# Altium integrated library Cypress PSoC 5.IntLib: 32 symbols (part 4 of 6)
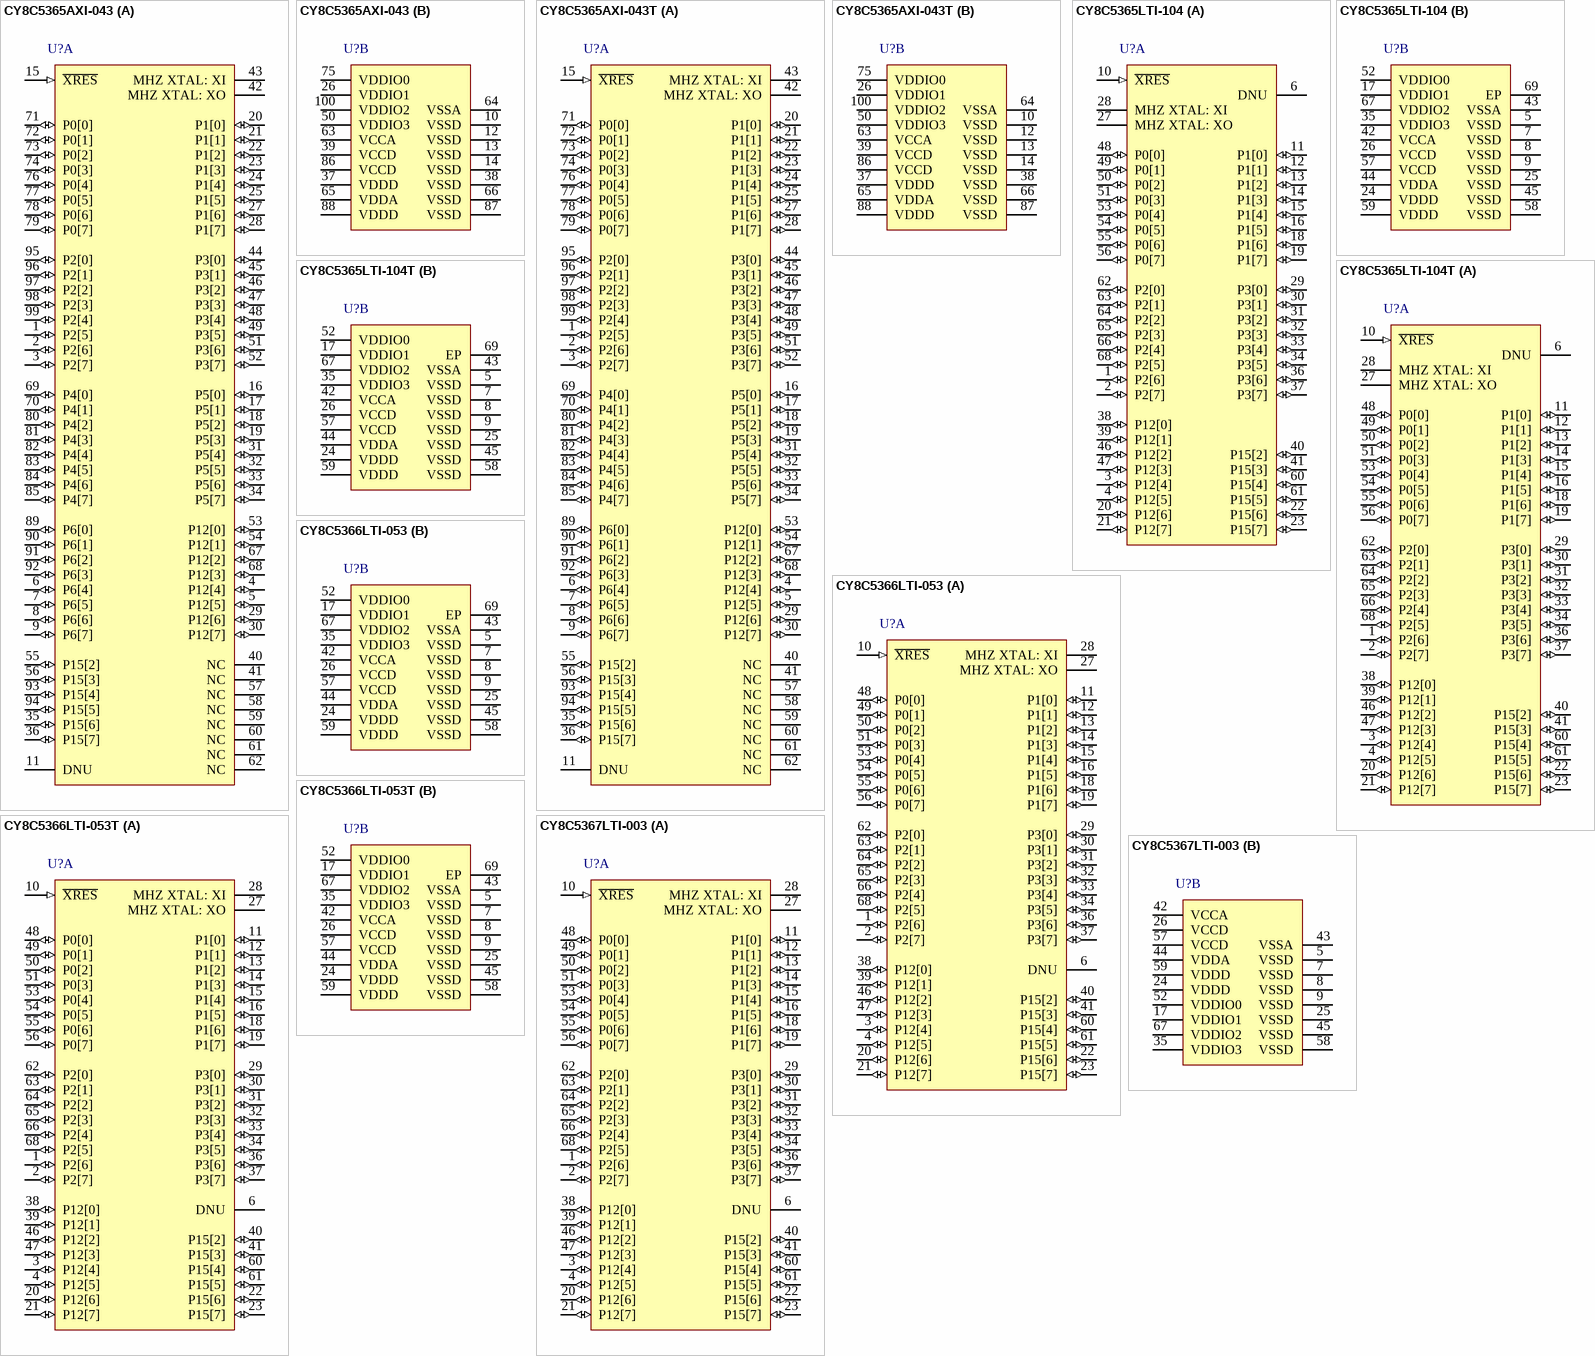
[diagram p7: symbols CY8C5365AXI-043 to CY8C5367LTI-003]

## CY8C5365LTI-104T
designator U?
PSoC Programmable System-on-Chip, 32 KB Flash, 36 GPIOs, 2.7 to 5.5 V, 68-Pin QFN (LT68), Tape and Reel; Manufacturer: Cypress; PartNumber: CY8C5365LTI-104T; CPU Core: ARM Cortex-M3; EEPROM (KB): 2; Flash (KB): 32; LCD Direct Drive: Y; Max. Operating Voltage (V): 5.5; Min. Operating Voltage (V): 2.7; No. of GPIOs: 36; No. of Programmable Universal Digital Blocks: 20; Rating: I; SRAM (KB): 8; DatasheetVersion: Rev. *D; PackageVersion: Rev. *E; PackageReference: LT68; PackageDescription: 68-Pin QFN, Body 8.00 x 8.00 mm, Pitch 0.40 mm; Supplier 1: Newark; Supplier Part Number 1: 89T5473; Supplier 2: Mouser; Supplier Part Number 2: 727-CY8C5365LTI-104T; Max. Operating Temp. (°C): 85; Min. Operating Temp. (°C): -40; Packing: Tape and Reel; Mounting Technology: Surface Mount; Code_JEDEC: MO-220; ComponentLink1Description: Manufacturer URL; ComponentLink1URL: http://www.cypress.com/; ComponentLink2Description: Datasheet; ComponentLink2URL: http://www.cypress.com/?docID=34816; ComponentLink3Description: Package Specification; ComponentLink3URL: http://www.cypress.com/?docID=38892; ComponentLink4Description: Product URL; ComponentLink4URL: http://www.cypress.com/?rID=38416
footprint CYP-LT68_N (QFN, 68-Leads, Body 8x8mm, Pitch 0.4mm, Thermal Pad 5.7x5.7mm, IPC Medium Density)
part A pins: 1 P2[6] (io) "General purpose I/O pin provides interfaces to the CPU, digital peripherals, analog peripherals, interrupts, LCD segment drive,and CapSense.", 2 P2[7] (io) "General purpose I/O pin provides interfaces to the CPU, digital peripherals, analog peripherals, interrupts, LCD segment drive,and CapSense.", 3 P12[4] (io) "Special I/O provides interfaces to the CPU, digital peripherals and interrupts with a programmable high threshold voltage, analog comparator, high sink current, and high impedance state when the device is unpowered.", 4 P12[5] (io) "Special I/O provides interfaces to the CPU, digital peripherals and interrupts with a programmable high threshold voltage, analog comparator, high sink current, and high impedance state when the device is unpowered.", 6 DNU "Pins labeled Do Not Use (DNU) must be left floating. USB pins on devices without USB are DNU.", 10 ~{XRES} (in) "External reset pin. Active low with internal pull-up.", 11 P1[0] (io) "Serial wire debug Input and output programming and debug port connection.General purpose I/O pin provides interfaces to the CPU, digital peripherals, analog peripherals, interrupts, LCD segment drive,and CapSense.", 12 P1[1] (io) "Serial wire debug clock programming and debug port connection. When programming and debugging using SWD is done over USBIOs, the SWDCK pin of port P1[1] is not available for use as a general purpose I/O and should be (See Datasheet)", 13 P1[2] (io) "General purpose I/O pin provides interfaces to the CPU, digital peripherals, analog peripherals, interrupts, LCD segment drive,and CapSense.", 14 P1[3] (io) "Single wire viewer output.General purpose I/O pin provides interfaces to the CPU, digital peripherals, analog peripherals, interrupts, LCD segment drive,and CapSense.", 15 P1[4] (io) "General purpose I/O pin provides interfaces to the CPU, digital peripherals, analog peripherals, interrupts, LCD segment drive,and CapSense.", 16 P1[5] (io) "General purpose I/O pin provides interfaces to the CPU, digital peripherals, analog peripherals, interrupts, LCD segment drive,and CapSense.", 18 P1[6] (io) "General purpose I/O pin provides interfaces to the CPU, digital peripherals, analog peripherals, interrupts, LCD segment drive,and CapSense.", 19 P1[7] (io) "General purpose I/O pin provides interfaces to the CPU, digital peripherals, analog peripherals, interrupts, LCD segment drive,and CapSense.", 20 P12[6] (io) "Special I/O provides interfaces to the CPU, digital peripherals and interrupts with a programmable high threshold voltage, analog comparator, high sink current, and high impedance state when the device is unpowered.", 21 P12[7] (io) "Special I/O provides interfaces to the CPU, digital peripherals and interrupts with a programmable high threshold voltage, analog comparator, high sink current, and high impedance state when the device is unpowered.", 22 P15[6] (io) "Provides D+ connection directly to a USB 2.0 bus.May be used as a digital I/O pin; it is powered from VDDD instead of from a VDDIO. Pins are Do Not Use (DNU) on devices without USB.Serial wire debug Input and output (See Datasheet)", 23 P15[7] (io) "Provides D- connection directly to a USB 2.0 bus.May be used as a digital I/O pin; it is powered from VDDD instead of from a VDDIO. Pins are Do Not Use (DNU) on devices without USB.Serial wire debug clock programming and (See Datasheet)", 27 MHZ XTAL: XO "4 to 25 MHz crystal oscillator pin. If a crystal is not used, then Xi must be shorted to ground and Xo must be left floating.", 28 MHZ XTAL: XI "4 to 25 MHz crystal oscillator pin. If a crystal is not used, then Xi must be shorted to ground and Xo must be left floating.", 29 P3[0] (io) "Low resistance output pin for high IDAC. General purpose I/O pin provides interfaces to the CPU, digital peripherals, analog peripherals, interrupts, LCD segment drive,and CapSense.", 30 P3[1] (io) "Low resistance output pin for high IDAC. General purpose I/O pin provides interfaces to the CPU, digital peripherals, analog peripherals, interrupts, LCD segment drive,and CapSense.", 31 P3[2] (io) "External reference input to the analog system. SAR0ref. External reference for SAR ADC.General purpose I/O pin provides interfaces to the CPU, digital peripherals, analog peripherals, interrupts, LCD segment drive,and (See Datasheet)", 32 P3[3] (io) "General purpose I/O pin provides interfaces to the CPU, digital peripherals, analog peripherals, interrupts, LCD segment drive,and CapSense.", 33 P3[4] (io) "General purpose I/O pin provides interfaces to the CPU, digital peripherals, analog peripherals, interrupts, LCD segment drive,and CapSense.", 34 P3[5] (io) "General purpose I/O pin provides interfaces to the CPU, digital peripherals, analog peripherals, interrupts, LCD segment drive,and CapSense.", 36 P3[6] (io) "General purpose I/O pin provides interfaces to the CPU, digital peripherals, analog peripherals, interrupts, LCD segment drive,and CapSense.", 37 P3[7] (io) "General purpose I/O pin provides interfaces to the CPU, digital peripherals, analog peripherals, interrupts, LCD segment drive,and CapSense.", 38 P12[0] (io) "Special I/O provides interfaces to the CPU, digital peripherals and interrupts with a programmable high threshold voltage, analog comparator, high sink current, and high impedance state when the device is unpowered.", 39 P12[1] (io) "Special I/O provides interfaces to the CPU, digital peripherals and interrupts with a programmable high threshold voltage, analog comparator, high sink current, and high impedance state when the device is unpowered.", 40 P15[2] (io) "General purpose I/O pin provides interfaces to the CPU, digital peripherals, analog peripherals, interrupts, LCD segment drive,and CapSense?32.768 kHz crystal oscillator pin.", 41 P15[3] (io) "General purpose I/O pin provides interfaces to the CPU, digital peripherals, analog peripherals, interrupts, LCD segment drive,and CapSense?32.768 kHz crystal oscillator pin.", 46 P12[2] (io) "Special I/O provides interfaces to the CPU, digital peripherals and interrupts with a programmable high threshold voltage, analog comparator, high sink current, and high impedance state when the device is unpowered.", 47 P12[3] (io) "Special I/O provides interfaces to the CPU, digital peripherals and interrupts with a programmable high threshold voltage, analog comparator, high sink current, and high impedance state when the device is unpowered.", 48 P0[0] (io) "General purpose I/O pin provides interfaces to the CPU, digital peripherals, analog peripherals, interrupts, LCD segment drive,and CapSense.", 49 P0[1] (io) "General purpose I/O pin provides interfaces to the CPU, digital peripherals, analog peripherals, interrupts, LCD segment drive,and CapSense.", 50 P0[2] (io) "General purpose I/O pin provides interfaces to the CPU, digital peripherals, analog peripherals, interrupts, LCD segment drive,and CapSense.", 51 P0[3] (io) "General purpose I/O pin provides interfaces to the CPU, digital peripherals, analog peripherals, interrupts, LCD segment drive,and CapSense.External reference input to the analog system. SAR0ref. External reference for SAR (See Datasheet)", 53 P0[4] (io) "General purpose I/O pin provides interfaces to the CPU,digital peripherals, analog peripherals, interrupts, LCD segment drive, and CapSense.External reference for SAR ADC.", 54 P0[5] (io) "General purpose I/O pin provides interfaces to the CPU, digital peripherals, analog peripherals, interrupts, LCD segment drive,and CapSense.", 55 P0[6] (io) "General purpose I/O pin provides interfaces to the CPU,digital peripherals, analog peripherals, interrupts, LCD segment drive, and CapSense.Low resistance output pin for high IDAC.", 56 P0[7] (io) "General purpose I/O pin provides interfaces to the CPU,digital peripherals, analog peripherals, interrupts, LCD segment drive, and CapSense.Low resistance output pin for high IDAC.", 60 P15[4] (io) "General purpose I/O pin provides interfaces to the CPU, digital peripherals, analog peripherals, interrupts, LCD segment drive,and CapSense.", 61 P15[5] (io) "General purpose I/O pin provides interfaces to the CPU, digital peripherals, analog peripherals, interrupts, LCD segment drive,and CapSense.", 62 P2[0] (io) "General purpose I/O pin provides interfaces to the CPU, digital peripherals, analog peripherals, interrupts, LCD segment drive,and CapSense.", 63 P2[1] (io) "General purpose I/O pin provides interfaces to the CPU, digital peripherals, analog peripherals, interrupts, LCD segment drive,and CapSense.", 64 P2[2] (io) "General purpose I/O pin provides interfaces to the CPU, digital peripherals, analog peripherals, interrupts, LCD segment drive,and CapSense.", 65 P2[3] (io) "General purpose I/O pin provides interfaces to the CPU, digital peripherals, analog peripherals, interrupts, LCD segment drive,and CapSense.", 66 P2[4] (io) "General purpose I/O pin provides interfaces to the CPU, digital peripherals, analog peripherals, interrupts, LCD segment drive,and CapSense.", 68 P2[5] (io) "General purpose I/O pin provides interfaces to the CPU, digital peripherals, analog peripherals, interrupts, LCD segment drive,and CapSense."
part B pins: 5 VSSD (power) "Ground for all digital logic and I/O pins.", 7 VSSD (power) "Ground for all digital logic and I/O pins.", 8 VSSD (power) "Ground for all digital logic and I/O pins.", 9 VSSD (power) "Ground for all digital logic and I/O pins.", 17 VDDIO1 (power) "Supply for I/O pins. Each VDDIO must be tied to a valid operating voltage (2.7 V to 5.5 V),and must be less than or equal to VDDA.", 24 VDDD (power) "Supply for all digital peripherals and digital core regulator.VDDD must be less than or equal to VDDA.", 25 VSSD (power) "Ground for all digital logic and I/O pins.", 26 VCCD (power) "Output of digital core regulator and input to digital core.The two VCCD pins must be shorted together, with the trace between them as short as possible, and a 1-uF capacitor to VSSD(10 uF is required for sleep mode. See (See Datasheet)", 35 VDDIO3 (power) "Supply for I/O pins. Each VDDIO must be tied to a valid operating voltage (2.7 V to 5.5 V),and must be less than or equal to VDDA.", 42 VCCA (power) "Output of analog core regulator and input to analog core.Requires a 1 uF capacitor to VSSA (10 uF is required for sleep mode. See Table 11-3). Regulator output not for external use.", 43 VSSA (power) "Ground for all analog peripherals.", 44 VDDA (power) "Supply for all analog peripherals and analog core regulator. VDDA must be the highest voltage present on the device. All other supply pins must be less than or equal to VDDA.", 45 VSSD (power) "Ground for all digital logic and I/O pins.", 52 VDDIO0 (power) "Supply for I/O pins. Each VDDIO must be tied to a valid operating voltage (2.7 V to 5.5 V),and must be less than or equal to VDDA.", 57 VCCD (power) "Output of digital core regulator and input to digital core.The two VCCD pins must be shorted together, with the trace between them as short as possible, and a 1-uF capacitor to VSSD(10 uF is required for sleep mode. See (See Datasheet)", 58 VSSD (power) "Ground for all digital logic and I/O pins.", 59 VDDD (power) "Supply for all digital peripherals and digital core regulator.VDDD must be less than or equal to VDDA.", 67 VDDIO2 (power) "Supply for I/O pins. Each VDDIO must be tied to a valid operating voltage (2.7 V to 5.5 V),and must be less than or equal to VDDA.", 69 EP (power) "The center pad on the QFN package should be connected to digital ground (VSSD) for best mechanical, thermal, and electrical performance. If not connected to ground, it should be electrically floated and not connected to any (See Datasheet)"

## CY8C5366LTI-053
designator U?
PSoC Programmable System-on-Chip, 64 KB Flash, 36 GPIOs, 2.7 to 5.5 V, 68-Pin QFN (LT68); Manufacturer: Cypress; PartNumber: CY8C5366LTI-053; CPU Core: ARM Cortex-M3; EEPROM (KB): 2; Flash (KB): 64; LCD Direct Drive: Y; Max. Operating Voltage (V): 5.5; Min. Operating Voltage (V): 2.7; No. of GPIOs: 36; No. of Programmable Universal Digital Blocks: 24; Rating: I; SRAM (KB): 16; DatasheetVersion: Rev. *D; PackageVersion: Rev. *E; PackageReference: LT68; PackageDescription: 68-Pin QFN, Body 8.00 x 8.00 mm, Pitch 0.40 mm; Supplier 1: Digi-Key; Supplier Part Number 1: 428-3135-ND; Supplier 2: Farnell; Supplier Part Number 2: 2082971; Supplier 3: Newark; Supplier Part Number 3: 89T5475; Supplier 4: Mouser; Supplier Part Number 4: 727-CY8C5366LTI-053; Max. Operating Temp. (°C): 85; Min. Operating Temp. (°C): -40; Mounting Technology: Surface Mount; Code_JEDEC: MO-220; ComponentLink1Description: Manufacturer URL; ComponentLink1URL: http://www.cypress.com/; ComponentLink2Description: Datasheet; ComponentLink2URL: http://www.cypress.com/?docID=34816; ComponentLink3Description: Package Specification; ComponentLink3URL: http://www.cypress.com/?docID=38892; ComponentLink4Description: Product URL; ComponentLink4URL: http://www.cypress.com/?rID=38416
footprint CYP-LT68_N (QFN, 68-Leads, Body 8x8mm, Pitch 0.4mm, Thermal Pad 5.7x5.7mm, IPC Medium Density)
part A pins: 1 P2[6] (io), 2 P2[7] (io), 3 P12[4] (io), 4 P12[5] (io), 6 DNU, 10 ~{XRES} (in) "External reset pin. Active low with internal pull-up.", 11 P1[0] (io), 12 P1[1] (io), 13 P1[2] (io), 14 P1[3] (io), 15 P1[4] (io), 16 P1[5] (io), 18 P1[6] (io), 19 P1[7] (io), 20 P12[6] (io), 21 P12[7] (io), 22 P15[6] (io), 23 P15[7] (io), 27 MHZ XTAL: XO "4 to 25 MHz crystal oscillator pin. If a crystal is not used then Xi must be shorted to ground and Xo must be left floating.", 28 MHZ XTAL: XI "4 to 25 MHz crystal oscillator pin. If a crystal is not used then Xi must be shorted to ground and Xo must be left floating.", 29 P3[0] (io), 30 P3[1] (io), 31 P3[2] (io), 32 P3[3] (io), 33 P3[4] (io), 34 P3[5] (io), 36 P3[6] (io), 37 P3[7] (io), 38 P12[0] (io), 39 P12[1] (io), 40 P15[2] (io), 41 P15[3] (io), 46 P12[2] (io), 47 P12[3] (io), 48 P0[0] (io), 49 P0[1] (io), 50 P0[2] (io), 51 P0[3] (io), 53 P0[4] (io), 54 P0[5] (io), 55 P0[6] (io), 56 P0[7] (io), 60 P15[4] (io), 61 P15[5] (io), 62 P2[0] (io), 63 P2[1] (io), 64 P2[2] (io), 65 P2[3] (io), 66 P2[4] (io), 68 P2[5] (io)
part B pins: 5 VSSD (power) "Ground for all digital logic and I/O pins.", 7 VSSD (power) "Ground for all digital logic and I/O pins.", 8 VSSD (power) "Ground for all digital logic and I/O pins.", 9 VSSD (power) "Ground for all digital logic and I/O pins.", 17 VDDIO1 (power) "Supply for I/O pins. Each VDDIO must be tied to a valid operating voltage (2.7 V to 5.5 V), and must be less than or equal to VDDA.", 24 VDDD (power) "Supply for all digital peripherals and digital core regulator. VDDD must be less than or equal to VDDA.", 25 VSSD (power) "Ground for all digital logic and I/O pins.", 26 VCCD (power) "Output of digital core regulator and input to digital core. The two VCCD pins must be shorted together, with the trace between them as short as possible, and a 1 µF capacitor to VSSD (10 µF is required for sleep mode.", 35 VDDIO3 (power) "Supply for I/O pins. Each VDDIO must be tied to a valid operating voltage (2.7 V to 5.5 V), and must be less than or equal to VDDA", 42 VCCA (power) "Output of analog core regulator and input to analog core. Requires a 1 µF capacitor to VSSA (10 µF is required for sleep mode.", 43 VSSA (power) "Ground for all analog peripherals", 44 VDDA (power) "Supply for all analog peripherals and analog core regulator. VDDA must be the highest voltage present on the device. All other supply pins must be less than or equal to VDDA.", 45 VSSD (power) "Ground for all digital logic and I/O pins.", 52 VDDIO0 (power) "Supply for I/O pins. Each VDDIO must be tied to a valid operating voltage (2.7 V to 5.5 V), and must be less than or equal to VDDA.", 57 VCCD (power) "Output of digital core regulator and input to digital core. The two VCCD pins must be shorted together, with the trace between them as short as possible, and a 1 µF capacitor to VSSD (10 µF is required for sleep mode.", 58 VSSD (power) "Ground for all digital logic and I/O pins.", 59 VDDD (power) "Supply for all digital peripherals and digital core regulator. VDDD must be less than or equal to VDDA.", 67 VDDIO2 (power) "Supply for I/O pins. Each VDDIO must be tied to a valid operating voltage (2.7 V to 5.5 V), and must be less than or equal to VDDA.", 69 EP (power)

## CY8C5366LTI-053T
designator U?
PSoC Programmable System-on-Chip, 64 KB Flash, 36 GPIOs, 2.7 to 5.5 V, 68-Pin QFN (LT68), Tape and Reel; Manufacturer: Cypress; PartNumber: CY8C5366LTI-053T; CPU Core: ARM Cortex-M3; EEPROM (KB): 2; Flash (KB): 64; LCD Direct Drive: Y; Max. Operating Voltage (V): 5.5; Min. Operating Voltage (V): 2.7; No. of GPIOs: 36; No. of Programmable Universal Digital Blocks: 24; Rating: I; SRAM (KB): 16; DatasheetVersion: Rev. *D; PackageVersion: Rev. *E; PackageReference: LT68; PackageDescription: 68-Pin QFN, Body 8.00 x 8.00 mm, Pitch 0.40 mm; Supplier 1: Newark; Supplier Part Number 1: 89T5476; Supplier 2: Mouser; Supplier Part Number 2: 727-CY8C5366LTI-053T; Max. Operating Temp. (°C): 85; Min. Operating Temp. (°C): -40; Packing: Tape and Reel; Mounting Technology: Surface Mount; Code_JEDEC: MO-220; ComponentLink1Description: Manufacturer URL; ComponentLink1URL: http://www.cypress.com/; ComponentLink2Description: Datasheet; ComponentLink2URL: http://www.cypress.com/?docID=34816; ComponentLink3Description: Package Specification; ComponentLink3URL: http://www.cypress.com/?docID=38892; ComponentLink4Description: Product URL; ComponentLink4URL: http://www.cypress.com/?rID=38416
footprint CYP-LT68_N (QFN, 68-Leads, Body 8x8mm, Pitch 0.4mm, Thermal Pad 5.7x5.7mm, IPC Medium Density)
part A pins: 1 P2[6] (io), 2 P2[7] (io), 3 P12[4] (io), 4 P12[5] (io), 6 DNU, 10 ~{XRES} (in) "External reset pin. Active low with internal pull-up.", 11 P1[0] (io), 12 P1[1] (io), 13 P1[2] (io), 14 P1[3] (io), 15 P1[4] (io), 16 P1[5] (io), 18 P1[6] (io), 19 P1[7] (io), 20 P12[6] (io), 21 P12[7] (io), 22 P15[6] (io), 23 P15[7] (io), 27 MHZ XTAL: XO "4 to 25 MHz crystal oscillator pin. If a crystal is not used then Xi must be shorted to ground and Xo must be left floating.", 28 MHZ XTAL: XI "4 to 25 MHz crystal oscillator pin. If a crystal is not used then Xi must be shorted to ground and Xo must be left floating.", 29 P3[0] (io), 30 P3[1] (io), 31 P3[2] (io), 32 P3[3] (io), 33 P3[4] (io), 34 P3[5] (io), 36 P3[6] (io), 37 P3[7] (io), 38 P12[0] (io), 39 P12[1] (io), 40 P15[2] (io), 41 P15[3] (io), 46 P12[2] (io), 47 P12[3] (io), 48 P0[0] (io), 49 P0[1] (io), 50 P0[2] (io), 51 P0[3] (io), 53 P0[4] (io), 54 P0[5] (io), 55 P0[6] (io), 56 P0[7] (io), 60 P15[4] (io), 61 P15[5] (io), 62 P2[0] (io), 63 P2[1] (io), 64 P2[2] (io), 65 P2[3] (io), 66 P2[4] (io), 68 P2[5] (io)
part B pins: 5 VSSD (power) "Ground for all digital logic and I/O pins.", 7 VSSD (power) "Ground for all digital logic and I/O pins.", 8 VSSD (power) "Ground for all digital logic and I/O pins.", 9 VSSD (power) "Ground for all digital logic and I/O pins.", 17 VDDIO1 (power) "Supply for I/O pins. Each VDDIO must be tied to a valid operating voltage (2.7 V to 5.5 V), and must be less than or equal to VDDA.", 24 VDDD (power) "Supply for all digital peripherals and digital core regulator. VDDD must be less than or equal to VDDA.", 25 VSSD (power) "Ground for all digital logic and I/O pins.", 26 VCCD (power) "Output of digital core regulator and input to digital core. The two VCCD pins must be shorted together, with the trace between them as short as possible, and a 1 µF capacitor to VSSD (10 µF is required for sleep mode.", 35 VDDIO3 (power) "Supply for I/O pins. Each VDDIO must be tied to a valid operating voltage (2.7 V to 5.5 V), and must be less than or equal to VDDA", 42 VCCA (power) "Output of analog core regulator and input to analog core. Requires a 1 µF capacitor to VSSA (10 µF is required for sleep mode.", 43 VSSA (power) "Ground for all analog peripherals", 44 VDDA (power) "Supply for all analog peripherals and analog core regulator. VDDA must be the highest voltage present on the device. All other supply pins must be less than or equal to VDDA.", 45 VSSD (power) "Ground for all digital logic and I/O pins.", 52 VDDIO0 (power) "Supply for I/O pins. Each VDDIO must be tied to a valid operating voltage (2.7 V to 5.5 V), and must be less than or equal to VDDA.", 57 VCCD (power) "Output of digital core regulator and input to digital core. The two VCCD pins must be shorted together, with the trace between them as short as possible, and a 1 µF capacitor to VSSD (10 µF is required for sleep mode.", 58 VSSD (power) "Ground for all digital logic and I/O pins.", 59 VDDD (power) "Supply for all digital peripherals and digital core regulator. VDDD must be less than or equal to VDDA.", 67 VDDIO2 (power) "Supply for I/O pins. Each VDDIO must be tied to a valid operating voltage (2.7 V to 5.5 V), and must be less than or equal to VDDA.", 69 EP (power)

## CY8C5367LTI-003
designator U?
PSoC Programmable System-on-Chip, 128 KB Flash, 36 GPIOs, 2.7 to 5.5 V, 68-Pin QFN (LT68); Manufacturer: Cypress; PartNumber: CY8C5367LTI-003; CPU Core: ARM Cortex-M3; EEPROM (KB): 2; Flash (KB): 128; LCD Direct Drive: Y; Max. Operating Voltage (V): 5.5; Min. Operating Voltage (V): 2.7; No. of GPIOs: 36; No. of Programmable Universal Digital Blocks: 24; Packing: Tray; Rating: I; SRAM (KB): 32; DatasheetVersion: Rev. *D; PackageVersion: Rev. *E; PackageReference: LT68; PackageDescription: 68-Pin QFN, Body 8.00 x 8.00 mm, Pitch 0.40 mm; Supplier 1: Digi-Key; Supplier Part Number 1: 428-3136-ND; Supplier 2: Farnell; Supplier Part Number 2: 2082972; Supplier 3: Newark; Supplier Part Number 3: 89T5478; Supplier 4: Mouser; Supplier Part Number 4: 727-CY8C5367LTI-003; Max. Operating Temp. (°C): 85; Min. Operating Temp. (°C): -40; Mounting Technology: Surface Mount; Code_JEDEC: MO-220; ComponentLink1Description: Manufacturer URL; ComponentLink1URL: http://www.cypress.com/; ComponentLink2Description: Datasheet; ComponentLink2URL: http://www.cypress.com/?docID=34816; ComponentLink3Description: Package Specification; ComponentLink3URL: http://www.cypress.com/?docID=38892; ComponentLink4Description: Product URL; ComponentLink4URL: http://www.cypress.com/?rID=38416
footprint CYP-LT68_N (QFN, 68-Leads, Body 8x8mm, Pitch 0.4mm, Thermal Pad 5.7x5.7mm, IPC Medium Density)
part A pins: 1 P2[6] (io) "General purpose I/O pin provides interfaces to the CPU,digital peripherals, analog peripherals, interrupts, LCD segment drive, and CapSense.", 2 P2[7] (io) "General purpose I/O pin provides interfaces to the CPU,digital peripherals, analog peripherals, interrupts, LCD segment drive, and CapSense.", 3 P12[4] (io) "Special I/O provides interfaces to the CPU, digital peripherals and interrupts with a programmable high threshold voltage, analog comparator, high sink current, and high impedance state when the device is unpowered.", 4 P12[5] (io) "Special I/O provides interfaces to the CPU, digital peripherals and interrupts with a programmable high threshold voltage, analog comparator, high sink current, and high impedance state when the device is unpowered.", 6 DNU, 10 ~{XRES} (in) "External reset pin. Active low with internal pull-up.", 11 P1[0] (io) "SWDIO. Serial Wire Debug Input and Output programming and debug port connection.GPIO.General purpose I/O pin provides interfaces to the CPU,digital peripherals, analog peripherals, interrupts, LCD segment drive, and CapSense.", 12 P1[1] (io) "SWDCK. Serial Wire Debug Clock programming and debug port connection. When programming and debugging using SWD is done over USBIOs, the SWDCK pin of port P1[1] is not available for use as a general purpose I/O and should be (See Datasheet)", 13 P1[2] (io) "General purpose I/O pin provides interfaces to the CPU,digital peripherals, analog peripherals, interrupts, LCD segment drive, and CapSense.", 14 P1[3] (io) "SWV. Single Wire Viewer output.GPIO.General purpose I/O pin provides interfaces to the CPU,digital peripherals, analog peripherals, interrupts, LCD segment drive, and CapSense.", 15 P1[4] (io) "General purpose I/O pin provides interfaces to the CPU,digital peripherals, analog peripherals, interrupts, LCD segment drive, and CapSense.", 16 P1[5] (io) "General purpose I/O pin provides interfaces to the CPU,digital peripherals, analog peripherals, interrupts, LCD segment drive, and CapSense.", 18 P1[6] (io) "General purpose I/O pin provides interfaces to the CPU,digital peripherals, analog peripherals, interrupts, LCD segment drive, and CapSense.", 19 P1[7] (io) "General purpose I/O pin provides interfaces to the CPU,digital peripherals, analog peripherals, interrupts, LCD segment drive, and CapSense.", 20 P12[6] (io) "Special I/O provides interfaces to the CPU, digital peripherals and interrupts with a programmable high threshold voltage, analog comparator, high sink current, and high impedance state when the device is unpowered.", 21 P12[7] (io) "Special I/O provides interfaces to the CPU, digital peripherals and interrupts with a programmable high threshold voltage, analog comparator, high sink current, and high impedance state when the device is unpowered.", 22 P15[6] (io) "USBIO, D+. Provides D+ connection directly to a USB 2.0 bus.May be used as a digital I/O pin; it is powered from VDDD instead of from a VDDIO. Pins are Do Not Use (DNU) on devices without USB.  SWDIO. Serial Wire Debug Input (See Datasheet)", 23 P15[7] (io) "USBIO, D-. Provides D- connection directly to a USB 2.0 bus.May be used as a digital I/O pin; it is powered from VDDD instead of from a VDDIO. Pins are DNU on devices without USB.  SWDCK. Serial Wire Debug Clock programming (See Datasheet)", 27 MHZ XTAL: XO "4 to 25 MHz crystal oscillator pin. If a crystal is not used then Xi must be shorted to ground and Xo must be left floating.", 28 MHZ XTAL: XI "4 to 25 MHz crystal oscillator pin. If a crystal is not used then Xi must be shorted to ground and Xo must be left floating.", 29 P3[0] (io) "General purpose I/O pin provides interfaces to the CPU,digital peripherals, analog peripherals, interrupts, LCD segment drive, and CapSense.", 30 P3[1] (io) "General purpose I/O pin provides interfaces to the CPU,digital peripherals, analog peripherals, interrupts, LCD segment drive, and CapSense.", 31 P3[2] (io) "GPIO.General purpose I/O pin provides interfaces to the CPU,digital peripherals, analog peripherals, interrupts, LCD segment drive, and CapSense.Extref1 External reference input to the analog system.", 32 P3[3] (io) "General purpose I/O pin provides interfaces to the CPU,digital peripherals, analog peripherals, interrupts, LCD segment drive, and CapSense.", 33 P3[4] (io) "General purpose I/O pin provides interfaces to the CPU,digital peripherals, analog peripherals, interrupts, LCD segment drive, and CapSense.", 34 P3[5] (io) "General purpose I/O pin provides interfaces to the CPU,digital peripherals, analog peripherals, interrupts, LCD segment drive, and CapSense.", 36 P3[6] (io) "General purpose I/O pin provides interfaces to the CPU,digital peripherals, analog peripherals, interrupts, LCD segment drive, and CapSense.", 37 P3[7] (io) "General purpose I/O pin provides interfaces to the CPU,digital peripherals, analog peripherals, interrupts, LCD segment drive, and CapSense.", 38 P12[0] (io) "Special I/O provides interfaces to the CPU, digital peripherals and interrupts with a programmable high threshold voltage, analog comparator, high sink current, and high impedance state when the device is unpowered.", 39 P12[1] (io) "Special I/O provides interfaces to the CPU, digital peripherals and interrupts with a programmable high threshold voltage, analog comparator, high sink current, and high impedance state when the device is unpowered.", 40 P15[2] (io) "GPIO.General purpose I/O pin provides interfaces to the CPU,digital peripherals, analog peripherals, interrupts, LCD segment drive, and CapSens.kHz XTAL: Xo, kHz XTAL: Xi. 32.768 kHz crystal oscillator pin.", 41 P15[3] (io) "GPIO.General purpose I/O pin provides interfaces to the CPU,digital peripherals, analog peripherals, interrupts, LCD segment drive, and CapSense.kHz XTAL: Xo, kHz XTAL: Xi. 32.768 kHz crystal oscillator pin.", 46 P12[2] (io) "Special I/O provides interfaces to the CPU, digital peripherals and interrupts with a programmable high threshold voltage, analog comparator, high sink current, and high impedance state when the device is unpowered.", 47 P12[3] (io) "Special I/O provides interfaces to the CPU, digital peripherals and interrupts with a programmable high threshold voltage, analog comparator, high sink current, and high impedance state when the device is unpowered.", 48 P0[0] (io) "GPIO.General purpose I/O pin provides interfaces to the CPU,digital peripherals, analog peripherals, interrupts, LCD segment drive, and CapSense[6].OpAmp2out. High current output of uncommitted opamp.", 49 P0[1] (io) "GPIO.General purpose I/O pin provides interfaces to the CPU,digital peripherals, analog peripherals, interrupts, LCD segment drive, and CapSense[6].OpAmp0out. High current output of uncommitted opamp.", 50 P0[2] (io) "GPIO.General purpose I/O pin provides interfaces to the CPU,digital peripherals, analog peripherals, interrupts, LCD segment drive, and CapSense[6]. OpAmp2+. Noninverting input to uncommitted opamp.", 51 P0[3] (io) "GPIO.General purpose I/O pin provides interfaces to the CPU,digital peripherals, analog peripherals, interrupts, LCD segment drive, and CapSense[6].OpAmp0-. Inverting input to uncommitted opamp.  Extref0. External reference (See Datasheet)", 53 P0[4] (io) "GPIO.General purpose I/O pin provides interfaces to the CPU,digital peripherals, analog peripherals, interrupts, LCD segment drive, and CapSense[6].OpAmp2+. Noninverting input to uncommitted opamp.SAR0ref.  External (See Datasheet)", 54 P0[5] (io) "GPIO.General purpose I/O pin provides interfaces to the CPU,digital peripherals, analog peripherals, interrupts, LCD segment drive, and CapSense[6].OpAmp2-. Inverting input to uncommitted opamp.", 55 P0[6] (io) "GPIO.General purpose I/O pin provides interfaces to the CPU,digital peripherals, analog peripherals, interrupts, LCD segment drive, and CapSense[6].IDAC0. Low resistance output pin for high current DACs(IDAC).", 56 P0[7] (io) "GPIO.General purpose I/O pin provides interfaces to the CPU,digital peripherals, analog peripherals, interrupts, LCD segment drive, and CapSense[6].IDAC2. Low resistance output pin for high current DACs(IDAC).", 60 P15[4] (io) "General purpose I/O pin provides interfaces to the CPU,digital peripherals, analog peripherals, interrupts, LCD segment drive, and CapSense.", 61 P15[5] (io) "General purpose I/O pin provides interfaces to the CPU,digital peripherals, analog peripherals, interrupts, LCD segment drive, and CapSense.", 62 P2[0] (io) "General purpose I/O pin provides interfaces to the CPU,digital peripherals, analog peripherals, interrupts, LCD segment drive, and CapSense.", 63 P2[1] (io) "General purpose I/O pin provides interfaces to the CPU,digital peripherals, analog peripherals, interrupts, LCD segment drive, and CapSense.", 64 P2[2] (io) "General purpose I/O pin provides interfaces to the CPU,digital peripherals, analog peripherals, interrupts, LCD segment drive, and CapSense.", 65 P2[3] (io) "General purpose I/O pin provides interfaces to the CPU,digital peripherals, analog peripherals, interrupts, LCD segment drive, and CapSense.", 66 P2[4] (io) "General purpose I/O pin provides interfaces to the CPU,digital peripherals, analog peripherals, interrupts, LCD segment drive, and CapSense].", 68 P2[5] (io) "General purpose I/O pin provides interfaces to the CPU,digital peripherals, analog peripherals, interrupts, LCD segment drive, and CapSense."
part B pins: 5 VSSD (power) "Ground for all digital logic and I/O pins.", 7 VSSD (power) "Ground for all digital logic and I/O pins.", 8 VSSD (power) "Ground for all digital logic and I/O pins.", 9 VSSD (power) "Ground for all digital logic and I/O pins.", 17 VDDIO1 (power) "Supply for I/O pins. Each VDDIO must be tied to a valid operating voltage (2.7 V to 5.5 V), and must be less than or equal to VDDA .", 24 VDDD (power) "Supply for all digital peripherals and digital core regulator. Supply for all digital peripherals and digital core regulator. VDDD must be less than or equal to VDDA.", 25 VSSD (power) "Ground for all digital logic and I/O pins.", 26 VCCD (power) "Output of digital core regulator and input to digital core.The two VCCD pins must be shorted together, with the trace between them as short as possible, and a 1 µF capacitor to VSSD(10 µF is required for sleep mode. See (See Datasheet)", 35 VDDIO3 (power) "Supply for I/O pins. Each VDDIO must be tied to a valid operating voltage (2.7 V to 5.5 V), and must be less than or equal to VDDA.", 42 VCCA (power) "Output of analog core regulator and input to analog core.Requires a 1 µF capacitor to VSSA (10 µF is required for sleep mode. See Table 11-3). Regulator output not for external use.", 43 VSSA (power) "Ground for all analog peripherals.", 44 VDDA (power) "Supply for all analog peripherals and analog core regulator. VDDA must be the highest voltage present on the device. All other supply pins must be less than or equal to VDDA.", 45 VSSD (power) "Ground for all digital logic and I/O pins.", 52 VDDIO0 (power) "Supply for I/O pins. Each VDDIO must be tied to a valid operating voltage (2.7 V to 5.5 V), and must be less than or equal to VDDA.", 57 VCCD (power) "Output of digital core regulator and input to digital core.The two VCCD pins must be shorted together, with the trace between them as short as possible, and a 1 µF capacitor to VSSD(10 µF is required for sleep mode. See (See Datasheet)", 58 VSSD (power) "Ground for all digital logic and I/O pins.", 59 VDDD (power) "Supply for all digital peripherals and digital core regulator.VDDD must be less than or equal to VDDA.", 67 VDDIO2 (power) "Supply for I/O pins. Each VDDIO must be tied to a valid operating voltage (2.7 V to 5.5 V), and must be less than or equal to VDDA."

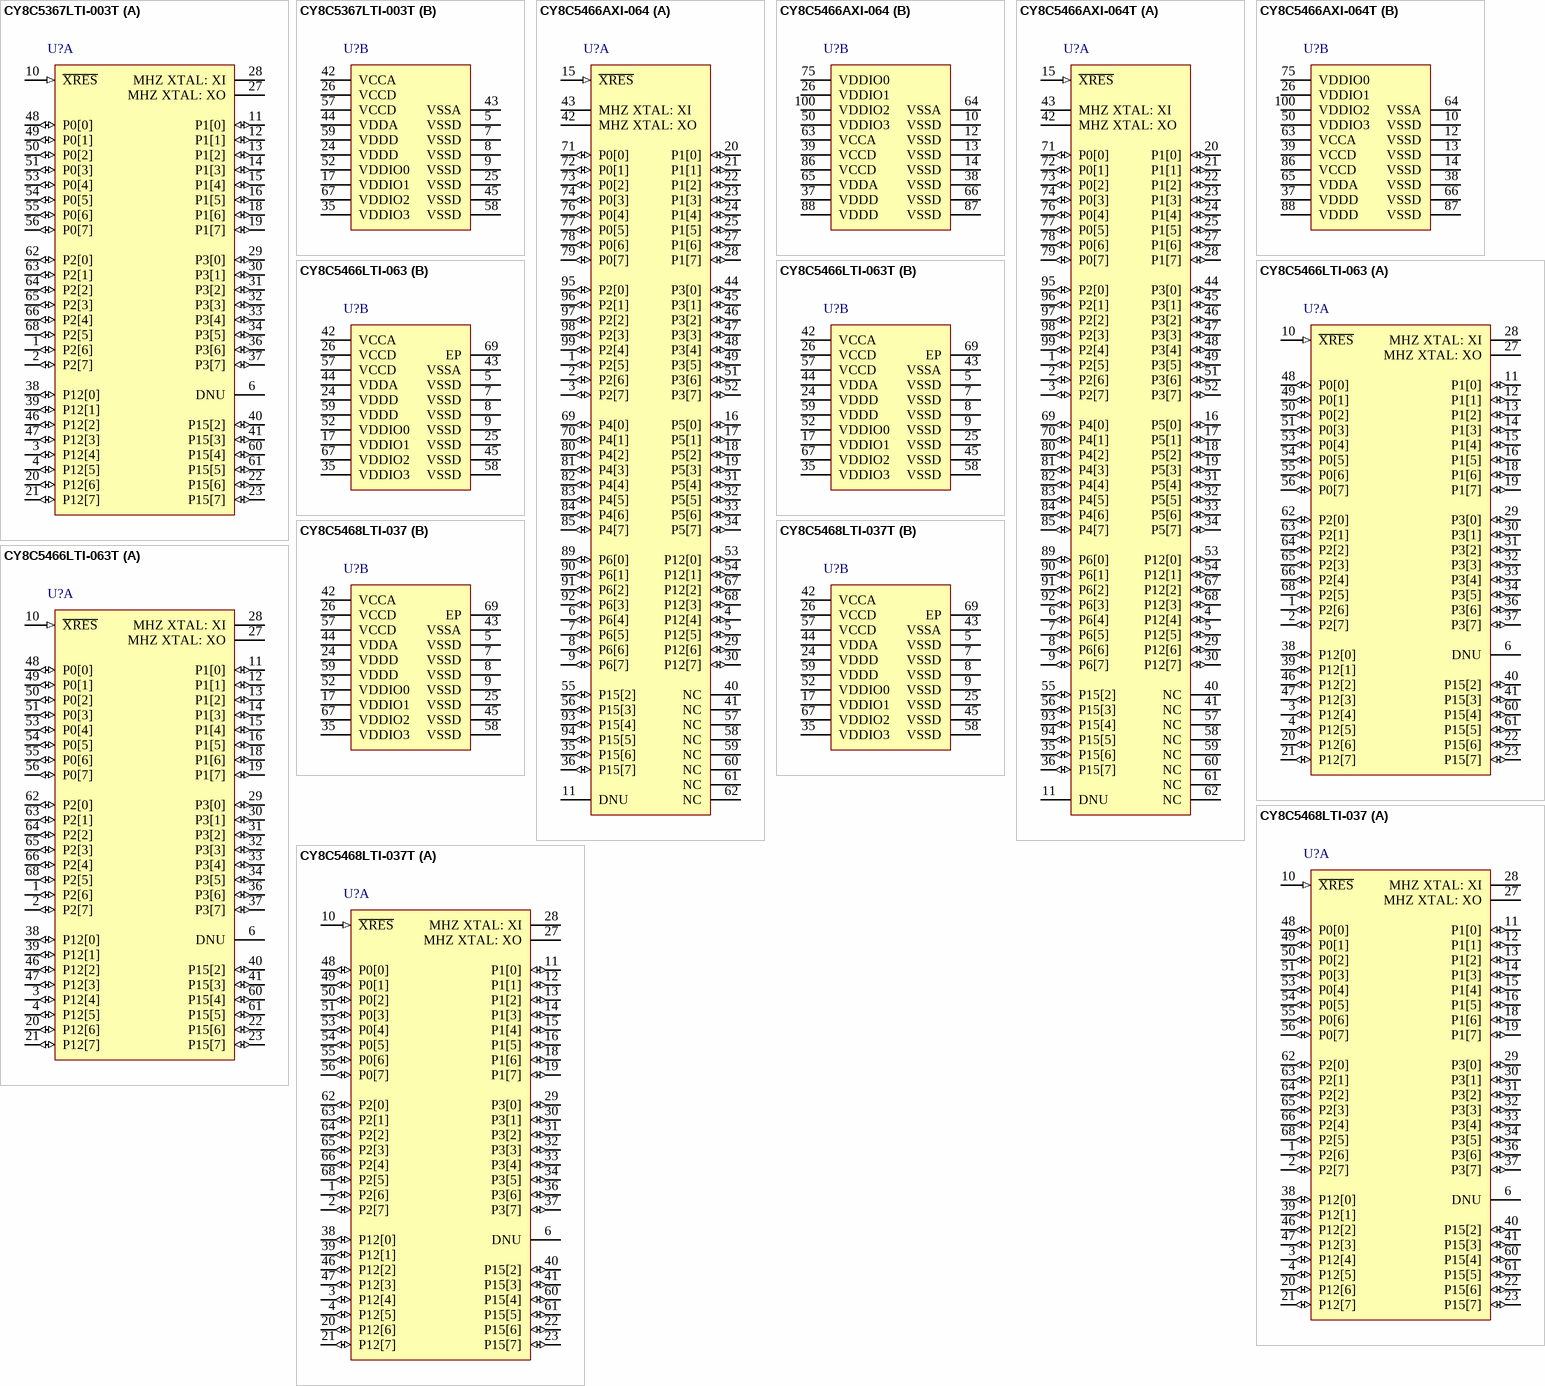
[diagram p3: symbols CY8C5367LTI-003T to CY8C5468LTI-037T]

## CY8C5367LTI-003T
designator U?
PSoC Programmable System-on-Chip, 128 KB Flash, 36 GPIOs, 2.7 to 5.5 V, 68-Pin QFN (LT68), Tape and Reel; Manufacturer: Cypress; PartNumber: CY8C5367LTI-003T; CPU Core: ARM Cortex-M3; EEPROM (KB): 2; Flash (KB): 128; LCD Direct Drive: Y; Max. Operating Voltage (V): 5.5; Min. Operating Voltage (V): 2.7; No. of GPIOs: 36; No. of Programmable Universal Digital Blocks: 24; Rating: I; SRAM (KB): 32; DatasheetVersion: Rev. *D; PackageVersion: Rev. *E; PackageReference: LT68; PackageDescription: 68-Pin QFN, Body 8.00 x 8.00 mm, Pitch 0.40 mm; Supplier 1: Newark; Supplier Part Number 1: 89T5479; Supplier 2: Mouser; Supplier Part Number 2: 727-CY8C5367LTI-003T; Max. Operating Temp. (°C): 85; Min. Operating Temp. (°C): -40; Packing: Tape and Reel; Mounting Technology: Surface Mount; Code_JEDEC: MO-220; ComponentLink1Description: Manufacturer URL; ComponentLink1URL: http://www.cypress.com/; ComponentLink2Description: Datasheet; ComponentLink2URL: http://www.cypress.com/?docID=34816; ComponentLink3Description: Package Specification; ComponentLink3URL: http://www.cypress.com/?docID=38892; ComponentLink4Description: Product URL; ComponentLink4URL: http://www.cypress.com/?rID=38416
footprint CYP-LT68_N (QFN, 68-Leads, Body 8x8mm, Pitch 0.4mm, Thermal Pad 5.7x5.7mm, IPC Medium Density)
part A pins: 1 P2[6] (io) "General purpose I/O pin provides interfaces to the CPU,digital peripherals, analog peripherals, interrupts, LCD segment drive, and CapSense.", 2 P2[7] (io) "General purpose I/O pin provides interfaces to the CPU,digital peripherals, analog peripherals, interrupts, LCD segment drive, and CapSense.", 3 P12[4] (io) "Special I/O provides interfaces to the CPU, digital peripherals and interrupts with a programmable high threshold voltage, analog comparator, high sink current, and high impedance state when the device is unpowered.", 4 P12[5] (io) "Special I/O provides interfaces to the CPU, digital peripherals and interrupts with a programmable high threshold voltage, analog comparator, high sink current, and high impedance state when the device is unpowered.", 6 DNU, 10 ~{XRES} (in) "External reset pin. Active low with internal pull-up.", 11 P1[0] (io) "SWDIO. Serial Wire Debug Input and Output programming and debug port connection.GPIO.General purpose I/O pin provides interfaces to the CPU,digital peripherals, analog peripherals, interrupts, LCD segment drive, and CapSense.", 12 P1[1] (io) "SWDCK. Serial Wire Debug Clock programming and debug port connection. When programming and debugging using SWD is done over USBIOs, the SWDCK pin of port P1[1] is not available for use as a general purpose I/O and should be (See Datasheet)", 13 P1[2] (io) "General purpose I/O pin provides interfaces to the CPU,digital peripherals, analog peripherals, interrupts, LCD segment drive, and CapSense.", 14 P1[3] (io) "SWV. Single Wire Viewer output.GPIO.General purpose I/O pin provides interfaces to the CPU,digital peripherals, analog peripherals, interrupts, LCD segment drive, and CapSense.", 15 P1[4] (io) "General purpose I/O pin provides interfaces to the CPU,digital peripherals, analog peripherals, interrupts, LCD segment drive, and CapSense.", 16 P1[5] (io) "General purpose I/O pin provides interfaces to the CPU,digital peripherals, analog peripherals, interrupts, LCD segment drive, and CapSense.", 18 P1[6] (io) "General purpose I/O pin provides interfaces to the CPU,digital peripherals, analog peripherals, interrupts, LCD segment drive, and CapSense.", 19 P1[7] (io) "General purpose I/O pin provides interfaces to the CPU,digital peripherals, analog peripherals, interrupts, LCD segment drive, and CapSense.", 20 P12[6] (io) "Special I/O provides interfaces to the CPU, digital peripherals and interrupts with a programmable high threshold voltage, analog comparator, high sink current, and high impedance state when the device is unpowered.", 21 P12[7] (io) "Special I/O provides interfaces to the CPU, digital peripherals and interrupts with a programmable high threshold voltage, analog comparator, high sink current, and high impedance state when the device is unpowered.", 22 P15[6] (io) "USBIO, D+. Provides D+ connection directly to a USB 2.0 bus.May be used as a digital I/O pin; it is powered from VDDD instead of from a VDDIO. Pins are Do Not Use (DNU) on devices without USB.  SWDIO. Serial Wire Debug Input (See Datasheet)", 23 P15[7] (io) "USBIO, D-. Provides D- connection directly to a USB 2.0 bus.May be used as a digital I/O pin; it is powered from VDDD instead of from a VDDIO. Pins are DNU on devices without USB.  SWDCK. Serial Wire Debug Clock programming (See Datasheet)", 27 MHZ XTAL: XO "4 to 25 MHz crystal oscillator pin. If a crystal is not used then Xi must be shorted to ground and Xo must be left floating.", 28 MHZ XTAL: XI "4 to 25 MHz crystal oscillator pin. If a crystal is not used then Xi must be shorted to ground and Xo must be left floating.", 29 P3[0] (io) "General purpose I/O pin provides interfaces to the CPU,digital peripherals, analog peripherals, interrupts, LCD segment drive, and CapSense.", 30 P3[1] (io) "General purpose I/O pin provides interfaces to the CPU,digital peripherals, analog peripherals, interrupts, LCD segment drive, and CapSense.", 31 P3[2] (io) "GPIO.General purpose I/O pin provides interfaces to the CPU,digital peripherals, analog peripherals, interrupts, LCD segment drive, and CapSense.Extref1 External reference input to the analog system.", 32 P3[3] (io) "General purpose I/O pin provides interfaces to the CPU,digital peripherals, analog peripherals, interrupts, LCD segment drive, and CapSense.", 33 P3[4] (io) "General purpose I/O pin provides interfaces to the CPU,digital peripherals, analog peripherals, interrupts, LCD segment drive, and CapSense.", 34 P3[5] (io) "General purpose I/O pin provides interfaces to the CPU,digital peripherals, analog peripherals, interrupts, LCD segment drive, and CapSense.", 36 P3[6] (io) "General purpose I/O pin provides interfaces to the CPU,digital peripherals, analog peripherals, interrupts, LCD segment drive, and CapSense.", 37 P3[7] (io) "General purpose I/O pin provides interfaces to the CPU,digital peripherals, analog peripherals, interrupts, LCD segment drive, and CapSense.", 38 P12[0] (io) "Special I/O provides interfaces to the CPU, digital peripherals and interrupts with a programmable high threshold voltage, analog comparator, high sink current, and high impedance state when the device is unpowered.", 39 P12[1] (io) "Special I/O provides interfaces to the CPU, digital peripherals and interrupts with a programmable high threshold voltage, analog comparator, high sink current, and high impedance state when the device is unpowered.", 40 P15[2] (io) "GPIO.General purpose I/O pin provides interfaces to the CPU,digital peripherals, analog peripherals, interrupts, LCD segment drive, and CapSens.kHz XTAL: Xo, kHz XTAL: Xi. 32.768 kHz crystal oscillator pin.", 41 P15[3] (io) "GPIO.General purpose I/O pin provides interfaces to the CPU,digital peripherals, analog peripherals, interrupts, LCD segment drive, and CapSense.kHz XTAL: Xo, kHz XTAL: Xi. 32.768 kHz crystal oscillator pin.", 46 P12[2] (io) "Special I/O provides interfaces to the CPU, digital peripherals and interrupts with a programmable high threshold voltage, analog comparator, high sink current, and high impedance state when the device is unpowered.", 47 P12[3] (io) "Special I/O provides interfaces to the CPU, digital peripherals and interrupts with a programmable high threshold voltage, analog comparator, high sink current, and high impedance state when the device is unpowered.", 48 P0[0] (io) "GPIO.General purpose I/O pin provides interfaces to the CPU,digital peripherals, analog peripherals, interrupts, LCD segment drive, and CapSense[6].OpAmp2out. High current output of uncommitted opamp.", 49 P0[1] (io) "GPIO.General purpose I/O pin provides interfaces to the CPU,digital peripherals, analog peripherals, interrupts, LCD segment drive, and CapSense[6].OpAmp0out. High current output of uncommitted opamp.", 50 P0[2] (io) "GPIO.General purpose I/O pin provides interfaces to the CPU,digital peripherals, analog peripherals, interrupts, LCD segment drive, and CapSense[6]. OpAmp2+. Noninverting input to uncommitted opamp.", 51 P0[3] (io) "GPIO.General purpose I/O pin provides interfaces to the CPU,digital peripherals, analog peripherals, interrupts, LCD segment drive, and CapSense[6].OpAmp0-. Inverting input to uncommitted opamp.  Extref0. External reference (See Datasheet)", 53 P0[4] (io) "GPIO.General purpose I/O pin provides interfaces to the CPU,digital peripherals, analog peripherals, interrupts, LCD segment drive, and CapSense[6].OpAmp2+. Noninverting input to uncommitted opamp.SAR0ref.  External (See Datasheet)", 54 P0[5] (io) "GPIO.General purpose I/O pin provides interfaces to the CPU,digital peripherals, analog peripherals, interrupts, LCD segment drive, and CapSense[6].OpAmp2-. Inverting input to uncommitted opamp.", 55 P0[6] (io) "GPIO.General purpose I/O pin provides interfaces to the CPU,digital peripherals, analog peripherals, interrupts, LCD segment drive, and CapSense[6].IDAC0. Low resistance output pin for high current DACs(IDAC).", 56 P0[7] (io) "GPIO.General purpose I/O pin provides interfaces to the CPU,digital peripherals, analog peripherals, interrupts, LCD segment drive, and CapSense[6].IDAC2. Low resistance output pin for high current DACs(IDAC).", 60 P15[4] (io) "General purpose I/O pin provides interfaces to the CPU,digital peripherals, analog peripherals, interrupts, LCD segment drive, and CapSense.", 61 P15[5] (io) "General purpose I/O pin provides interfaces to the CPU,digital peripherals, analog peripherals, interrupts, LCD segment drive, and CapSense.", 62 P2[0] (io) "General purpose I/O pin provides interfaces to the CPU,digital peripherals, analog peripherals, interrupts, LCD segment drive, and CapSense.", 63 P2[1] (io) "General purpose I/O pin provides interfaces to the CPU,digital peripherals, analog peripherals, interrupts, LCD segment drive, and CapSense.", 64 P2[2] (io) "General purpose I/O pin provides interfaces to the CPU,digital peripherals, analog peripherals, interrupts, LCD segment drive, and CapSense.", 65 P2[3] (io) "General purpose I/O pin provides interfaces to the CPU,digital peripherals, analog peripherals, interrupts, LCD segment drive, and CapSense.", 66 P2[4] (io) "General purpose I/O pin provides interfaces to the CPU,digital peripherals, analog peripherals, interrupts, LCD segment drive, and CapSense].", 68 P2[5] (io) "General purpose I/O pin provides interfaces to the CPU,digital peripherals, analog peripherals, interrupts, LCD segment drive, and CapSense."
part B pins: 5 VSSD (power) "Ground for all digital logic and I/O pins.", 7 VSSD (power) "Ground for all digital logic and I/O pins.", 8 VSSD (power) "Ground for all digital logic and I/O pins.", 9 VSSD (power) "Ground for all digital logic and I/O pins.", 17 VDDIO1 (power) "Supply for I/O pins. Each VDDIO must be tied to a valid operating voltage (2.7 V to 5.5 V), and must be less than or equal to VDDA .", 24 VDDD (power) "Supply for all digital peripherals and digital core regulator. Supply for all digital peripherals and digital core regulator. VDDD must be less than or equal to VDDA.", 25 VSSD (power) "Ground for all digital logic and I/O pins.", 26 VCCD (power) "Output of digital core regulator and input to digital core.The two VCCD pins must be shorted together, with the trace between them as short as possible, and a 1 µF capacitor to VSSD(10 µF is required for sleep mode. See (See Datasheet)", 35 VDDIO3 (power) "Supply for I/O pins. Each VDDIO must be tied to a valid operating voltage (2.7 V to 5.5 V), and must be less than or equal to VDDA.", 42 VCCA (power) "Output of analog core regulator and input to analog core.Requires a 1 µF capacitor to VSSA (10 µF is required for sleep mode. See Table 11-3). Regulator output not for external use.", 43 VSSA (power) "Ground for all analog peripherals.", 44 VDDA (power) "Supply for all analog peripherals and analog core regulator. VDDA must be the highest voltage present on the device. All other supply pins must be less than or equal to VDDA.", 45 VSSD (power) "Ground for all digital logic and I/O pins.", 52 VDDIO0 (power) "Supply for I/O pins. Each VDDIO must be tied to a valid operating voltage (2.7 V to 5.5 V), and must be less than or equal to VDDA.", 57 VCCD (power) "Output of digital core regulator and input to digital core.The two VCCD pins must be shorted together, with the trace between them as short as possible, and a 1 µF capacitor to VSSD(10 µF is required for sleep mode. See (See Datasheet)", 58 VSSD (power) "Ground for all digital logic and I/O pins.", 59 VDDD (power) "Supply for all digital peripherals and digital core regulator.VDDD must be less than or equal to VDDA.", 67 VDDIO2 (power) "Supply for I/O pins. Each VDDIO must be tied to a valid operating voltage (2.7 V to 5.5 V), and must be less than or equal to VDDA."